# Altium footprint library RES_ERJU01F2202C.PcbLib: 1 footprints
Each footprint in its own frame and in the unit in brackets; x right, y up, seen from the top. Pads: shape width x height; smd on the part's side, far side on the other; paste and mask are expansions set on the pad; w line width, h text height; cw(c..) or ccw(c..) is an arc to the next point about the centre after c.
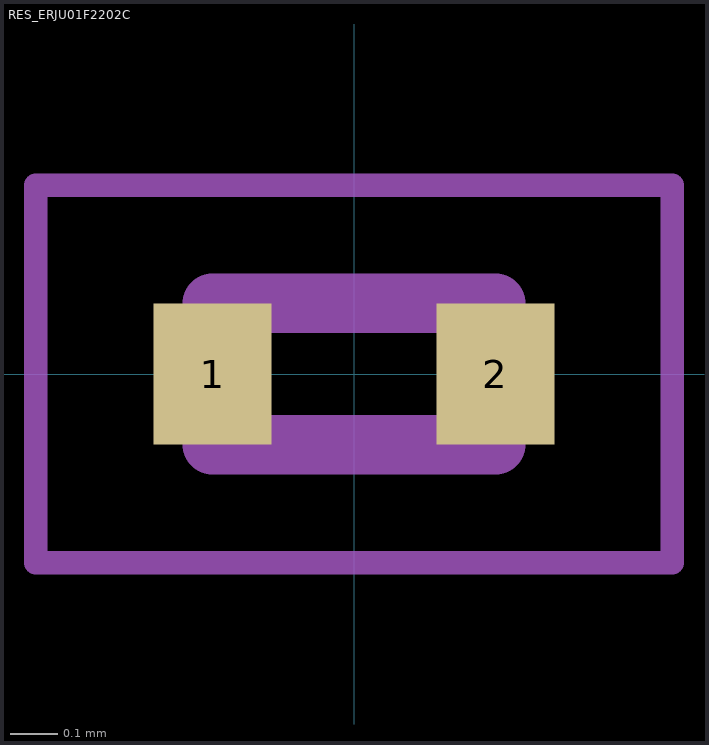
[diagram p0: the footprint, top view; thin cyan lines are the x and y axes]

## RES_ERJU01F2202C [mm]
pads (2):
  rect 0.25x0.3 smd: 1(-0.3,0) 2(0.3,0)
Mechanical 13:
  lines w0.127: -0.3,-0.15 -0.3,0.15 0.3,0.15 0.3,-0.15 -0.3,-0.15
Mechanical 15:
  lines w0.05: -0.675,-0.4 -0.675,0.4 0.675,0.4 0.675,-0.4 -0.675,-0.4